# EAGLE library part ADF4356BCPZ (library Air_Link)
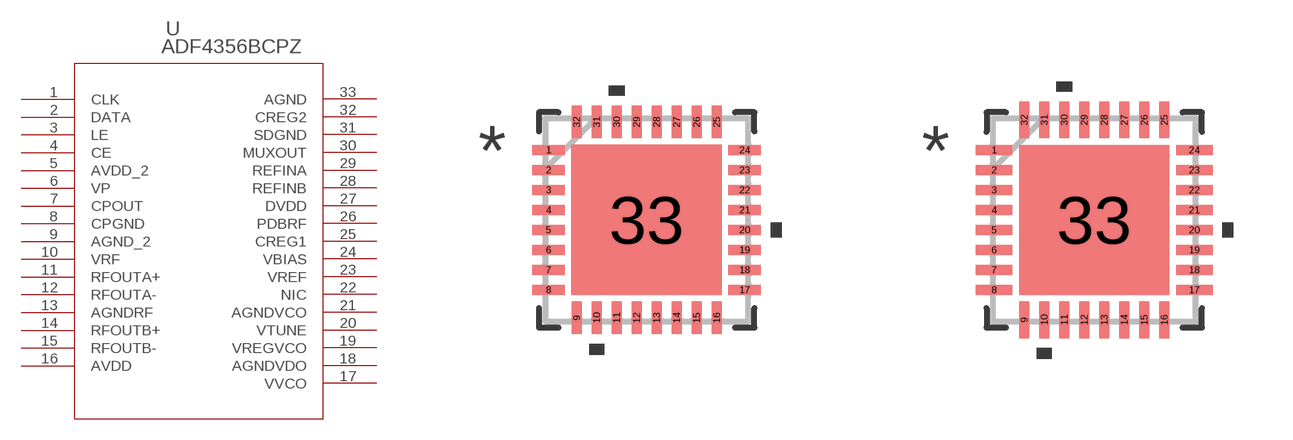
[diagram p2: symbol with the pads of CP-32-12_ADI; footprints CP-32-12_ADI, CP-32-12_ADI-M]

Designator prefix U

## ADF4356BCPZ (COPYRIGHT: Copyright (C) 2025 Ultra Librarian. All rights reserved.; MANUFACTURER_PART_NUMBER: ADF4356BCPZ; MFR_NAME: Analog Devices Inc; TYPE: Clock, timing)  [CP-32-12_ADI]
1  CLK  in
2  DATA  in
3  LE  in
4  CE  in
5  AVDD_2  pwr
6  VP  pwr
7  CPOUT  out
8  CPGND  pas
9  AGND_2  pas
10  VRF  pwr
11  RFOUTA+  out
12  RFOUTA-  out
13  AGNDRF  pas
14  RFOUTB+  out
15  RFOUTB-  out
16  AVDD  pwr
17  VVCO  pwr
18  AGNDVDO  pas
19  VREGVCO  pwr
20  VTUNE  in
21  AGNDVCO  pas
22  NIC  nc
23  VREF  pwr
24  VBIAS  pwr
25  CREG1  out
26  PDBRF  pas
27  DVDD  pwr
28  REFINB  in
29  REFINA  in
30  MUXOUT  out
31  SDGND  pas
32  CREG2  out
33  AGND  pas

## ADF4356BCPZCP-32-12_ADI-M (COPYRIGHT: Copyright (C) 2025 Ultra Librarian. All rights reserved.; MANUFACTURER_PART_NUMBER: ADF4356BCPZ; MFR_NAME: Analog Devices Inc; TYPE: Clock, timing)  [CP-32-12_ADI-M]
Pads as for CP-32-12_ADI

## ADF4356BCPZCP-32-12_ADI-L (COPYRIGHT: Copyright (C) 2025 Ultra Librarian. All rights reserved.; MANUFACTURER_PART_NUMBER: ADF4356BCPZ; MFR_NAME: Analog Devices Inc; TYPE: Clock, timing)  [CP-32-12_ADI-L]
Pads as for CP-32-12_ADI

## Footprint CP-32-12_ADI (pad centres in mm)
smd 0.813 x 0.254: 1 -2.451,1.75; 2 -2.451,1.25; 3 -2.451,0.75; 4 -2.451,0.25; 5 -2.451,-0.25; 6 -2.451,-0.75; 7 -2.451,-1.25; 8 -2.451,-1.75; 17 2.451,-1.75; 18 2.451,-1.25; 19 2.451,-0.75; 20 2.451,-0.25; 21 2.451,0.25; 22 2.451,0.75; 23 2.451,1.25; 24 2.451,1.75
smd 0.254 x 0.813: 9 -1.75,-2.451; 10 -1.25,-2.451; 11 -0.75,-2.451; 12 -0.25,-2.451; 13 0.25,-2.451; 14 0.75,-2.451; 15 1.25,-2.451; 16 1.75,-2.451; 25 1.75,2.451; 26 1.25,2.451; 27 0.75,2.451; 28 0.25,2.451; 29 -0.25,2.451; 30 -0.75,2.451; 31 -1.25,2.451; 32 -1.75,2.451
smd 3.759 x 3.759: 33 0,0

## Footprint CP-32-12_ADI-M (pad centres in mm)
smd 0.914 x 0.254: 1 -2.502,1.75; 2 -2.502,1.25; 3 -2.502,0.75; 4 -2.502,0.25; 5 -2.502,-0.25; 6 -2.502,-0.75; 7 -2.502,-1.25; 8 -2.502,-1.75; 17 2.502,-1.75; 18 2.502,-1.25; 19 2.502,-0.75; 20 2.502,-0.25; 21 2.502,0.25; 22 2.502,0.75; 23 2.502,1.25; 24 2.502,1.75
smd 0.254 x 0.914: 9 -1.75,-2.502; 10 -1.25,-2.502; 11 -0.75,-2.502; 12 -0.25,-2.502; 13 0.25,-2.502; 14 0.75,-2.502; 15 1.25,-2.502; 16 1.75,-2.502; 25 1.75,2.502; 26 1.25,2.502; 27 0.75,2.502; 28 0.25,2.502; 29 -0.25,2.502; 30 -0.75,2.502; 31 -1.25,2.502; 32 -1.75,2.502
smd 3.759 x 3.759: 33 0,0

## Footprint CP-32-12_ADI-L (pad centres in mm)
smd 0.711 x 0.254: 1 -2.4,1.75; 2 -2.4,1.25; 3 -2.4,0.75; 4 -2.4,0.25; 5 -2.4,-0.25; 6 -2.4,-0.75; 7 -2.4,-1.25; 8 -2.4,-1.75; 17 2.4,-1.75; 18 2.4,-1.25; 19 2.4,-0.75; 20 2.4,-0.25; 21 2.4,0.25; 22 2.4,0.75; 23 2.4,1.25; 24 2.4,1.75
smd 0.254 x 0.711: 9 -1.75,-2.4; 10 -1.25,-2.4; 11 -0.75,-2.4; 12 -0.25,-2.4; 13 0.25,-2.4; 14 0.75,-2.4; 15 1.25,-2.4; 16 1.75,-2.4; 25 1.75,2.4; 26 1.25,2.4; 27 0.75,2.4; 28 0.25,2.4; 29 -0.25,2.4; 30 -0.75,2.4; 31 -1.25,2.4; 32 -1.75,2.4
smd 3.759 x 3.759: 33 0,0